# EAGLE library part MPU6000 (library TDK)
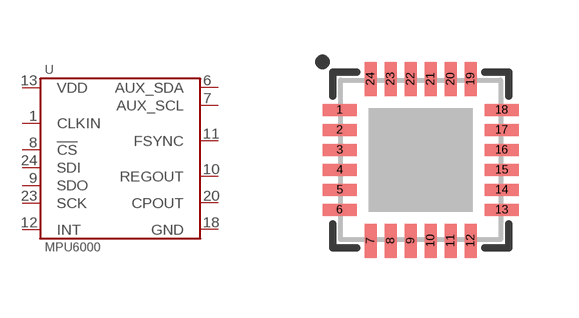
[diagram p0: symbol with the pads of QFN-24-4X4; footprint QFN-24-4X4]

Designator prefix U

## MPU6000  [QFN-24-4X4]
1  CLKIN
6  AUX_SDA
7  AUX_SCL
8  !CS
9  SDO
10  REGOUT
11  FSYNC
12  INT
13  VDD
18  GND
20  CPOUT
23  SCK
24  SDI

## Footprint QFN-24-4X4 (pad centres in mm)
smd 0.85 x 0.3: 1 -2.025,1.25; 2 -2.025,0.75; 3 -2.025,0.25; 4 -2.025,-0.25; 5 -2.025,-0.75; 6 -2.025,-1.25; 13 2.025,-1.25; 14 2.025,-0.75; 15 2.025,-0.25; 16 2.025,0.25; 17 2.025,0.75; 18 2.025,1.25
smd 0.3 x 0.85: 7 -1.25,-2.025; 8 -0.75,-2.025; 9 -0.25,-2.025; 10 0.25,-2.025; 11 0.75,-2.025; 12 1.25,-2.025; 19 1.25,2.025; 20 0.75,2.025; 21 0.25,2.025; 22 -0.25,2.025; 23 -0.75,2.025; 24 -1.25,2.025